# Altium schematic symbol library Caps.SchLib: 10 symbols
Pins are listed as number, name and electrical type; pins without a type are passive.

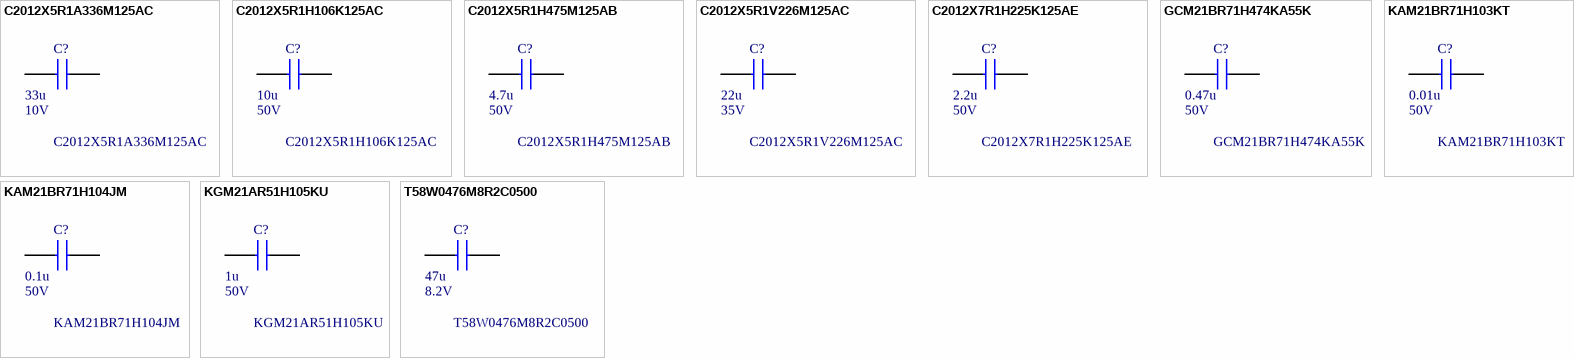
[diagram p0: symbols C2012X5R1A336M125AC to T58W0476M8R2C0500]

## C2012X5R1A336M125AC
designator C?  value 33u  Rated Voltage: 10V
Multilayer Ceramic Chip Capacitors, Capacitance=33u; Manufacturer_Part_Number: C2012X5R1A336M125AC
footprint CAPC2012X145N
pins: 1, 2

## C2012X5R1H106K125AC
designator C?  value 10u  Rated Voltage: 50V
Multilayer Ceramic Chip Capacitors, Capacitance=10?F, LxWxT:2x1.25x1.25mm; Manufacturer_Name: TDK; Geometry.Height: 1.45mm; Mouser Part Number: 810-C2012X5R1H106K12; Mouser Price/Stock: https://www.mouser.co.uk/ProductDetail/TDK/C2012X5R1H106K125AC?qs=rSMjJ%252B1ewcQGpfDVduhUmg%3D%3D; Manufacturer_Part_Number: C2012X5R1H106K125AC; Datasheet Link: https://product.tdk.com/info/en/catalog/datasheets/mlcc_commercial_midvoltage_en.pdf
footprint CAPC2012X145N
pins: 1, 2

## C2012X5R1H475M125AB
designator C?  value 4.7u  Rated Voltage: 50V
Multilayer Ceramic Chip Capacitors, Capacitance=4.7u; Manufacturer_Part_Number: GCM21BR71H474KA55K
footprint CAPC2012X145N
pins: 1, 2

## C2012X5R1V226M125AC
designator C?  value 22u  Rated Voltage: 35V
Multilayer Ceramic Chip Capacitors, Capacitance=22u; Manufacturer_Part_Number: C2012X5R1V226M125AC
footprint CAPC2012X145N
pins: 1, 2

## C2012X7R1H225K125AE
designator C?  value 2.2u  Rated Voltage: 50V
Multilayer Ceramic Chip Capacitors, Capacitance=2.2u; Manufacturer_Part_Number: C2012X7R1H225K125AE
footprint CAPC2012X145N
pins: 1, 2

## GCM21BR71H474KA55K
designator C?  value 0.47u  Rated Voltage: 50V
Multilayer Ceramic Chip Capacitors, Capacitance=0.47u; Manufacturer_Part_Number: GCM21BR71H474KA55K
footprint CAPC2012X145N
pins: 1, 2

## KAM21BR71H103KT
designator C?  value 0.01u  Rated Voltage: 50V
Multilayer Ceramic Chip Capacitors, Capacitance=0.01u; Manufacturer_Part_Number: KAM21BR71H103KT
footprint CAPC2012X145N
pins: 1, 2

## KAM21BR71H104JM
designator C?  value 0.1u  Rated Voltage: 50V
Multilayer Ceramic Chip Capacitors, Capacitance=0.1u; Manufacturer_Part_Number: KAM21BR71H104JM
footprint CAPC2012X145N
pins: 1, 2

## KGM21AR51H105KU
designator C?  value 1u  Rated Voltage: 50V
Multilayer Ceramic Chip Capacitors, Capacitance=1u; Manufacturer_Part_Number: KGM21AR51H105KU
footprint CAPC2012X145N
pins: 1, 2

## T58W0476M8R2C0500
designator C?  value 47u  Rated Voltage: 8.2V
47 µF Molded Tantalum Polymer Capacitor 8.2 V 0805 (2012 Metric) 500mOhm @ 100kHz; Manufacturer_Part_Number: T58W0476M8R2C0500
footprint CAPC2012X145N
pins: 1, 2